# Altium integrated library ECS-8FMX-160-TR.IntLib: 1 symbol
Pins are listed as number, name and electrical type; pins without a type are passive.

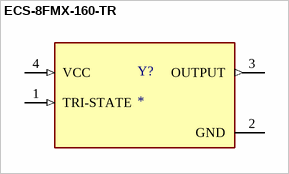
[diagram p0: symbol ECS-8FMX-160-TR]

## ECS-8FMX-160-TR
designator Y?
CMOS Oscillator Enable/Disable 4-SOJ, 5.08mm pitch; MP: ECS-8FMX-160-TR; Package: None; Price: None; Value: *; Availability: Unavailable
footprint OSC_ECS-8FMX-160-TR
pins: 1 TRI-STATE (in), 2 GND (power), 3 OUTPUT (out), 4 VCC (in)